# Altium schematic symbol library SPW2430.SchLib: 1 symbol
Pins are listed as number, name and electrical type; pins without a type are passive.

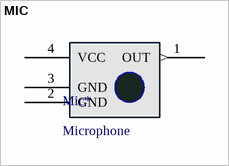
[diagram p0: symbol MIC]

## MIC
designator Mic*, comment Microphone
SPW2430HR5H-B  MEMs Microphone
footprint SPW2430HR5H-B (SPW2430HR5H-B MEMS Microphone)
pins: 1 OUT (out), 2 GND, 3 GND, 4 VCC